# Altium schematic symbol library ADS1115.SchLib: 1 symbol
Pins are listed as number, name and electrical type; pins without a type are passive.

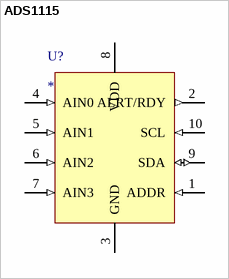
[diagram p0: symbol ADS1115]

## ADS1115
designator U?
16-bit I2C MUX-PGA-ADC with Internal Reference; Manufacturer: Texas Instruments; GENERIC_PART_NUMBER: ADS1115; INDUSTRY_STD_PKG_TYPE: X2QFN; FAMILY_NAME: PRECISION ADC (<=10MSPS); PIN_COUNT: 10; PACKAGE_DESIGNATOR: RUG; Datasheet URL: http://www.ti.com/lit/gpn/ADS1115; RefDes: RefDes; Type: DEV; Value: Value
pins: 1 ADDR (in), 2 ALRT/RDY (out), 3 GND (power), 4 AIN0 (in), 5 AIN1 (in), 6 AIN2 (in), 7 AIN3 (in), 8 VDD (power), 9 SDA (io), 10 SCL (in)